# EAGLE library part EPG.0B.303.HLN (library lplemo)
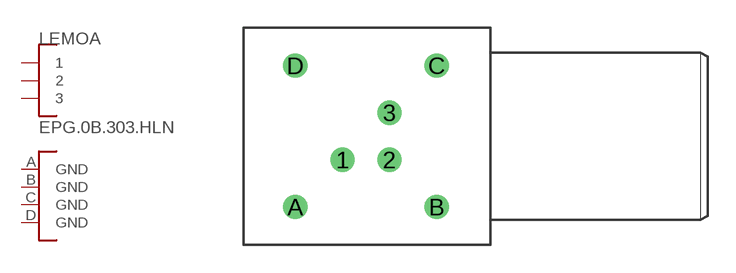
[diagram p4: symbol with the pads of P19-EPG-EXG-0B.303; footprint P19-EPG-EXG-0B.303]

Designator prefix LEMO; gates A=C3 B=GND4

## EPG.0B.303.HLN  [P19-EPG-EXG-0B.303]
1  A:1
2  A:2
3  A:3
A  B:GND  pwr
B  B:GND  pwr
C  B:GND  pwr
D  B:GND  pwr

## Footprint P19-EPG-EXG-0B.303 (pad centres in mm)
drill 0.8 round: 1 -5.08,-1.27; 2 -2.54,-1.27; 3 -2.54,1.27; A -7.62,-3.81; B 0,-3.81; C 0,3.81; D -7.62,3.81